# Altium schematic symbol library 6-Pin-RightAngle.SchLib: 3 symbols
Pins are listed as number, name and electrical type; pins without a type are passive.

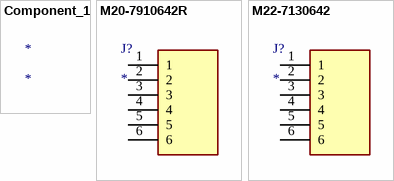
[diagram p0: symbols Component_1 to M22-7130642]

## Component_1
designator *

## M20-7910642R
designator J?
Connector; Manufacturer_Name: Harwin; Manufacturer_Part_Number: M20-7910642R; Description: 2.54mm (0.1") Pitch SIL Horizontal SMT Socket Assembly; Datasheet Link: https://cdn.harwin.com/pdfs/M20-791R.pdf; Mouser Part Number: 855-M20-7910642R; Mouser Price/Stock: https://www.mouser.co.uk/ProductDetail/Harwin/M20-7910642R?qs=k41KVqW3ymovSPRowkWy%2Fg%3D%3D
footprint M20-7910642R
pins: 1, 2, 3, 4, 5, 6

## M22-7130642
designator J?
Connector; Manufacturer_Name: Harwin; Manufacturer_Part_Number: M22-7130642; Datasheet Link: https://cdn.harwin.com/pdfs/M22-713.pdf; Height: 4.4mm; Mouser Part Number: 855-M22-7130642; Mouser Price/Stock: https://www.mouser.co.uk/ProductDetail/Harwin/M22-7130642?qs=ulE8k0yEMYZNQ0oQsOYRzA%3D%3D
footprint RHDR6W50P0X200_1X6_1250X240X440P
pins: 1, 2, 3, 4, 5, 6